# Altium footprint library P13348SCT-ND.PcbLib: 2 footprints
Each footprint in its own frame and in the unit in brackets; x right, y up, seen from the top. Pads: shape width x height; smd on the part's side, far side on the other; paste and mask are expansions set on the pad; w line width, h text height; cw(c..) or ccw(c..) is an arc to the next point about the centre after c.
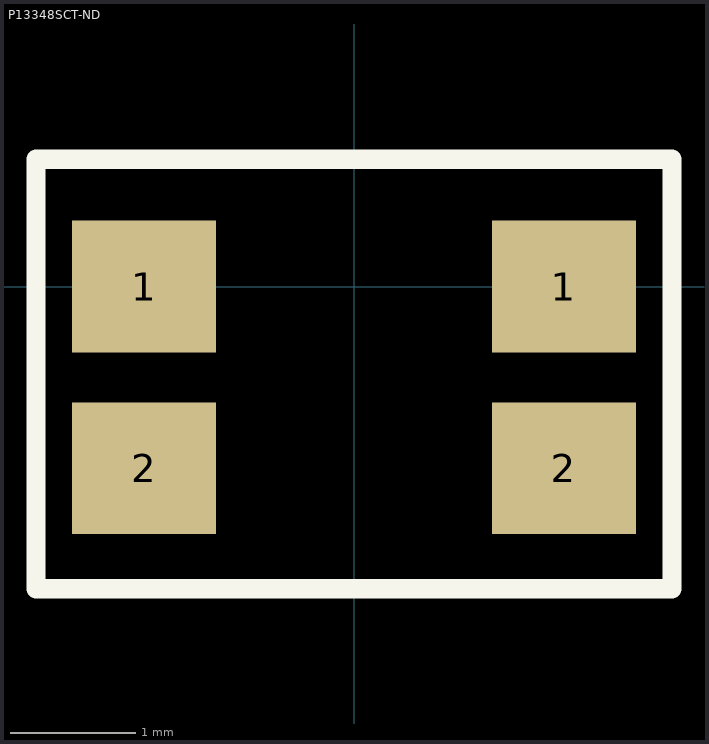
[diagram p0: the footprints below, top view; thin cyan lines are the x and y axes]

## P13348SCT-ND [mm]
pads (4):
  rect 1.15x1.05 smd: 1(-1.675,0) 1(1.675,0) 2(-1.675,-1.45) 2(1.675,-1.45)
Top Overlay:
  lines w0.152: -2.54,-2.413 -2.54,-1.685 -2.54,1.016 2.54,1.016 2.54,-2.413 -2.54,-2.413

## PCBComponent_1 [mm]